# EAGLE library part LCA710 (library LCA710 - Solid State Relay Form A - NO)
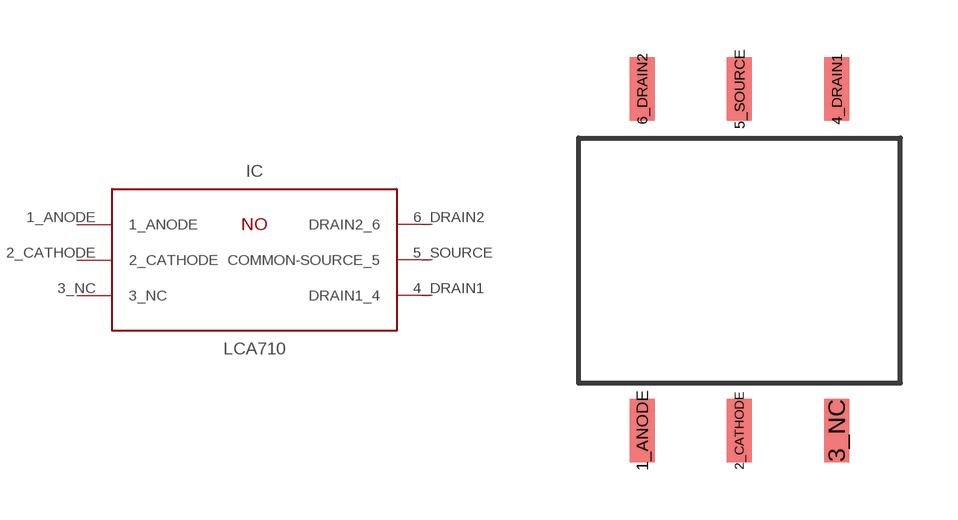
[diagram p0: symbol with the pads of SMD_DIP6; footprint SMD_DIP6]

Designator prefix IC

## LCA710  [SMD_DIP6]
1_ANODE  1_ANODE  in
2_CATHODE  2_CATHODE  out
3_NC  3_NC  nc
4_DRAIN1  DRAIN1_4
5_SOURCE  COMMON-SOURCE_5
6_DRAIN2  DRAIN2_6

## Footprint SMD_DIP6 (pad centres in mm)
smd 0.65 x 1.65: 1_ANODE -2.54,-4.44; 2_CATHODE 0,-4.44; 3_NC 2.54,-4.44; 4_DRAIN1 2.54,4.48; 5_SOURCE 0,4.48; 6_DRAIN2 -2.54,4.48